# EAGLE library part RR_5X_A (library #PaJa_30)
Odporova sit - 5x - spol. vyvod
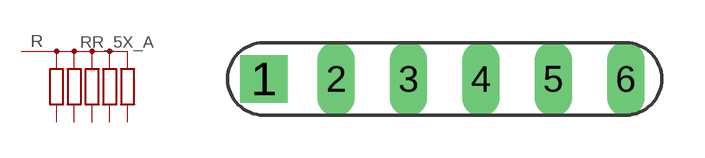
[diagram p30: symbol with the pads of RR_5X_A; footprint RR_5X_A]

Designator prefix R

## RR_5X_A  [RR_5X_A]
1  R  pas
2  R1  pas
3  R2  pas
4  R3  pas
5  R4  pas
6  R5  pas

## Footprint RR_5X_A (pad centres in mm)
drill 0.813 pad 1.676 square: 1 -6.35,0
drill 0.813 pad 1.27 long: 2 -3.81,0; 3 -1.27,0; 4 1.27,0; 5 3.81,0; 6 6.35,0